# EAGLE library part NCP5104 (library mosfet_drivers)
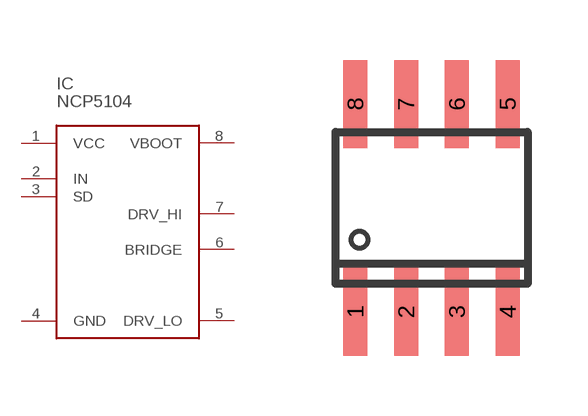
[diagram p3: symbol with the pads of SOIC8; footprint SOIC8]

Designator prefix IC

## NCP5104  [SOIC8]
1  VCC
2  IN
3  SD
4  GND
5  DRV_LO
6  BRIDGE
7  DRV_HI
8  VBOOT

## Footprint SOIC8 (pad centres in mm)
Small Outline IC
smd 0.6 x 2.2: 1 -1.905,-2.6; 2 -0.635,-2.6; 3 0.635,-2.6; 4 1.905,-2.6; 5 1.905,2.6; 6 0.635,2.6; 7 -0.635,2.6; 8 -1.905,2.6